# Altium footprint library 691 336 500 0xx.PcbLib: 6 footprints
Each footprint in its own frame and in the unit in brackets; x right, y up, seen from the top. Pads: shape width x height; smd on the part's side, far side on the other; paste and mask are expansions set on the pad; w line width, h text height; cw(c..) or ccw(c..) is an arc to the next point about the centre after c.
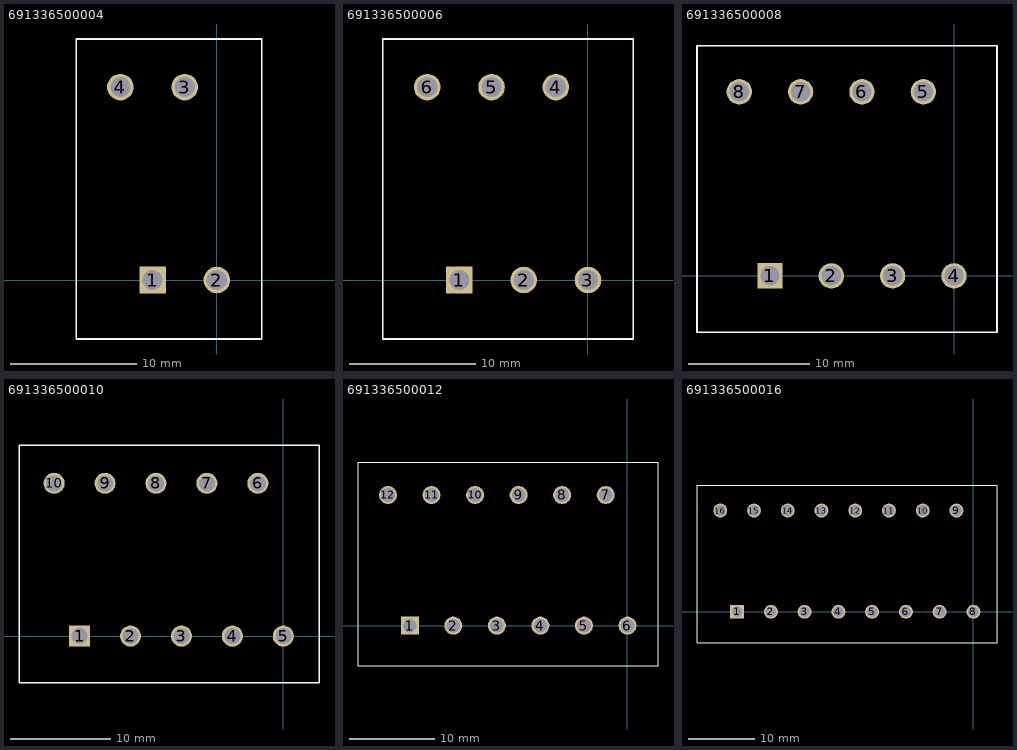
[diagram p0: the footprints below, top view; thin cyan lines are the x and y axes]

## 691336500004 [mm] "5,08mm - PCB - Dual row - Staggered - Vertical - Closed - 04p"
height 22
pads (4):
  rect 2.1x2.1 hole 1.6: 1(-5.08,0)
  round 2.1 hole 1.6: 2(0,0) 3(-2.54,15.24) 4(-7.62,15.24)
Top Overlay:
  lines w0.127: -11.12,-4.66 -11.12,19.04 3.56,19.04 3.56,-4.66 -11.12,-4.66
3D body: height 22.01, standoff -3.89, extent -11.14,-4.66 3.56,19.04

## 691336500006 [mm] "5,08mm - PCB - Dual row - Staggered - Vertical - Closed - 06p"
height 22
pads (6):
  rect 2.1x2.1 hole 1.6: 1(-10.16,0)
  round 2.1 hole 1.6: 2(-5.08,0) 3(0,0) 4(-2.54,15.24) 5(-7.62,15.24) 6(-12.7,15.24)
Top Overlay:
  lines w0.127: -11.12,-4.66 3.56,-4.66 3.56,19.04 -11.12,19.04 ; -1.52,-4.66 -16.2,-4.66 -16.2,19.04 -1.52,19.04
3D body: height 22.01, standoff -3.89, extent -16.2,-4.66 3.58,19.04

## 691336500008 [mm] "5,08mm - PCB - Dual row - Staggered - Vertical - Closed - 08p"
height 22
pads (8):
  rect 2.1x2.1 hole 1.6: 1(-15.24,0)
  round 2.1 hole 1.6: 2(-10.16,0) 3(-5.08,0) 4(0,0) 5(-2.54,15.24) 6(-7.62,15.24) 7(-12.7,15.24) 8(-17.78,15.24)
Top Overlay:
  lines w0.127: -11.12,-4.66 3.56,-4.66 3.56,19.04 -11.12,19.04 ; -6.6,-4.66 -21.28,-4.66 -21.28,19.04 -6.6,19.04
3D body: height 22.01, standoff -3.89, extent -21.3,-4.66 3.56,19.04

## 691336500010 [mm] "5,08mm - PCB - Dual row - Staggered - Vertical - Closed - 10p"
height 22
pads (10):
  rect 2.1x2.1 hole 1.6: 1(-20.32,0)
  round 2.1 hole 1.6: 2(-15.24,0) 3(-10.16,0) 4(-5.08,0) 5(0,0) 6(-2.54,15.24) 7(-7.62,15.24) 8(-12.7,15.24) 9(-17.78,15.24) 10(-22.86,15.24)
Top Overlay:
  lines w0.127: -21.28,-4.66 -6.6,-4.66 ; -21.28,19.04 -6.6,19.04 ; -11.68,-4.66 -26.36,-4.66 -26.36,19.04 -11.68,19.04 ; -11.12,-4.66 3.56,-4.66 3.56,19.04 -11.12,19.04
3D body: height 22.01, standoff -3.89, extent -26.36,-4.66 3.58,19.04

## 691336500012 [mm] "5,08mm - PCB - Dual row - Staggered - Vertical - Closed - 12p"
height 22
pads (12):
  rect 2.1x2.1 hole 1.6: 1(-25.4,0)
  round 2.1 hole 1.6: 2(-20.32,0) 3(-15.24,0) 4(-10.16,0) 5(-5.08,0) 6(0,0) 7(-2.54,15.24) 8(-7.62,15.24) 9(-12.7,15.24) 10(-17.78,15.24) 11(-22.86,15.24) 12(-27.94,15.24)
Top Overlay:
  lines w0.127: -21.28,-4.66 -6.6,-4.66 ; -21.28,19.04 -6.6,19.04 ; -16.76,-4.66 -31.44,-4.66 -31.44,19.04 -16.76,19.04 ; -11.12,-4.66 3.56,-4.66 3.56,19.04 -11.12,19.04
3D body: height 22.01, standoff -3.89, extent -31.44,-4.66 3.58,19.04

## 691336500016 [mm] "5,08mm - PCB - Dual row - Staggered - Vertical - Closed - 16p"
height 22
pads (16):
  rect 2.1x2.1 hole 1.6: 1(-35.56,0)
  round 2.1 hole 1.6: 2(-30.48,0) 3(-25.4,0) 4(-20.32,0) 5(-15.24,0) 6(-10.16,0) 7(-5.08,0) 8(0,0) 9(-2.54,15.24) 10(-7.62,15.24) 11(-12.7,15.24) 12(-17.78,15.24) 13(-22.86,15.24) 14(-27.94,15.24) 15(-33.02,15.24) 16(-38.1,15.24)
Top Overlay:
  lines w0.127: -31.44,-4.66 -16.76,-4.66 ; -31.44,19.04 -16.76,19.04 ; -26.92,-4.66 -41.6,-4.66 -41.6,19.04 -26.92,19.04 ; -21.28,-4.66 -6.6,-4.66 ; -21.28,19.04 -6.6,19.04 ; -11.12,-4.66 3.56,-4.66 3.56,19.04 -11.12,19.04
3D body: height 22.01, standoff -3.89, extent -41.62,-4.66 3.56,19.04